# Altium schematic symbol library AD835AR.SchLib: 1 symbol
Pins are listed as number, name and electrical type; pins without a type are passive.

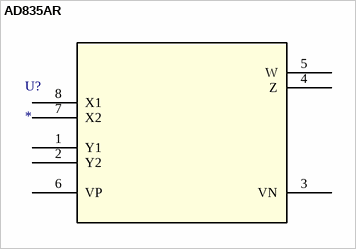
[diagram p0: symbol AD835AR]

## AD835AR
designator U?
Imported; Manufacturer_Part_Number: AD835AR; Vendor: Vendor; Value: Value; Type: Type; RefDes: Refdes
footprint R_8
footprint R_8_L
footprint R_8_M
pins: 1 Y1, 2 Y2, 3 VN (power), 4 Z, 5 W, 6 VP (power), 7 X2, 8 X1